# EAGLE library part 4259-63 (library 4259-63)
RF switch IC Source: Datasheet <http://www.psemi.com/pdf/datasheets/pe4259ds.pdf>
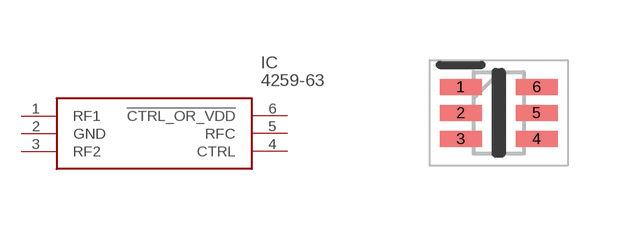
[diagram p0: symbol with the pads of SOT65P210X110-6N; footprint SOT65P210X110-6N]

Designator prefix IC

## 4259-63 (Description: RF switch IC; Height: 1.1mm; Manufacturer_Name: Peregrine Semiconductor; Manufacturer_Part_Number: 4259-63; Mouser_Part_Number: 81-4259-63; Mouser_Price-Stock: https://www.mouser.co.uk/ProductDetail/pSemi/4259-63?qs=iw0hurA%2FaD37qvQcKdATTw%3D%3D)  [SOT65P210X110-6N]
1  RF1
2  GND
3  RF2
4  CTRL
5  RFC
6  !CTRL_OR_VDD

## Footprint SOT65P210X110-6N (pad centres in mm)
6lead-sc-70
smd 1.05 x 0.4: 1 -0.95,0.65; 2 -0.95,0; 3 -0.95,-0.65; 4 0.95,-0.65; 5 0.95,0; 6 0.95,0.65